# Altium footprint library CONN_HDMI.PcbLib: 10 footprints
Each footprint in its own frame and in the unit in brackets; x right, y up, seen from the top. Pads: shape width x height; smd on the part's side, far side on the other; paste and mask are expansions set on the pad; w line width, h text height; cw(c..) or ccw(c..) is an arc to the next point about the centre after c.
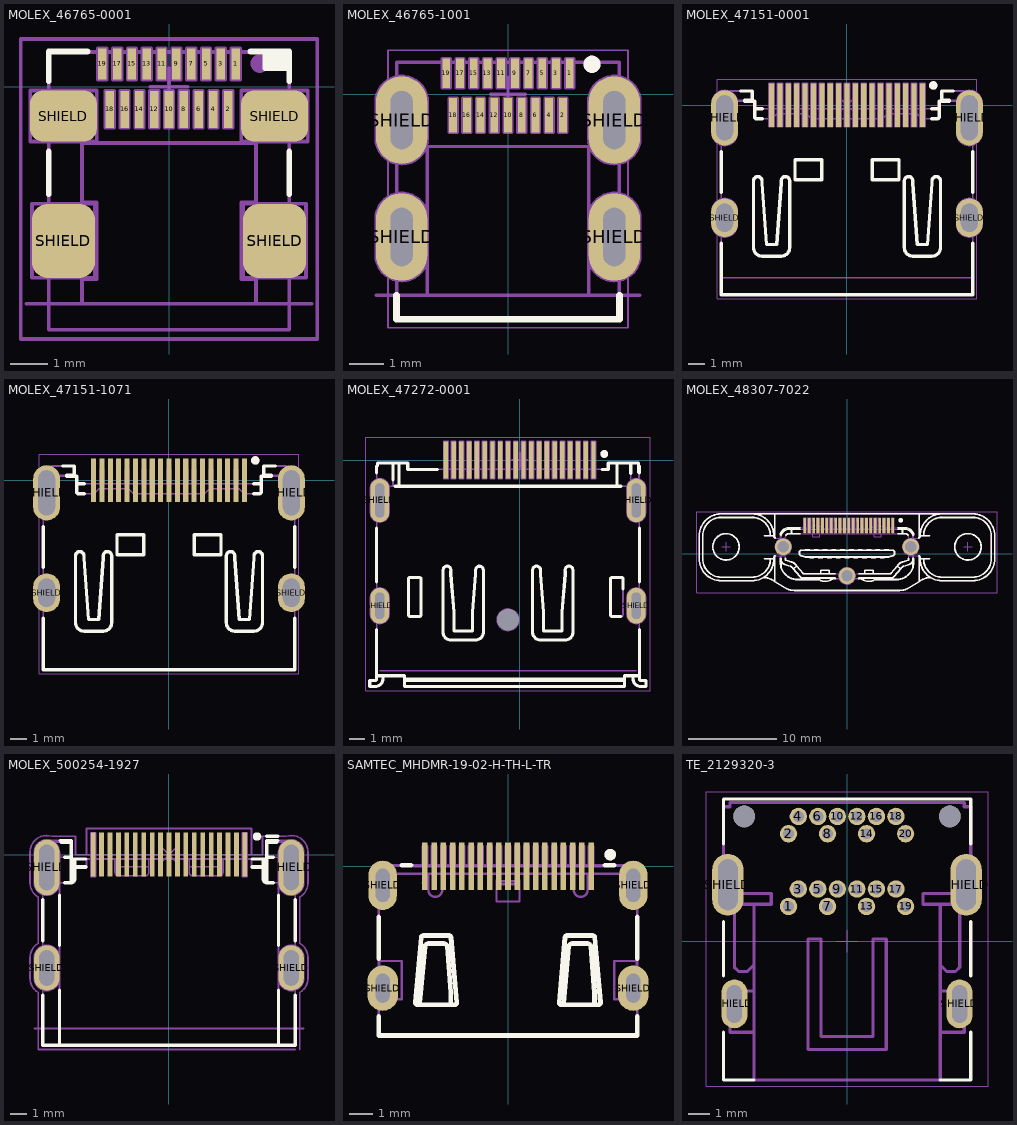
[diagram p0: the footprints below, top view; thin cyan lines are the x and y axes]

## MINIDP_CONNECTOR [mm] "Mini Displayport"
height 4.17
3D body "Mini Display Port.STEP": height 5.75, standoff -2.75, extent -5.3,-68.4 5.3,0.8

## MOLEX_46765-0001 [mm] "0.4mm Pitch, Surface Mount Right Angle 19 Contacts Micro HDMI Type-D Receptacle With Kapton Tape  And SMT Mounting Pads"
height 2.9
pads (23):
  rect 0.23x0.85 smd: 1(1.8,0.613) 3(1.4,0.613) 5(1,0.613) 7(0.6,0.613) 9(0.2,0.613) 11(-0.2,0.613) 13(-0.6,0.613) 15(-1,0.613) 17(-1.4,0.613) 19(-1.8,0.613)
  rect 0.23x1 smd: 2(1.6,-0.613) 4(1.2,-0.613) 6(0.8,-0.613) 8(0.4,-0.613) 10(0,-0.613) 12(-0.4,-0.613) 14(-0.8,-0.613) 16(-1.2,-0.613) 18(-1.6,-0.613)
  rrect50% 1.7x2 smd: SHIELD(-2.85,-4.163) SHIELD(2.85,-4.163)
  rrect50% 1.8x1.38 smd: SHIELD(-2.85,-0.793) SHIELD(2.85,-0.793)
Top Overlay:
  lines w0.15: -3.25,-2.9 -3.25,-1.75 ; -3.25,0.15 -3.25,0.95 -2.2,0.95 ; 2.2,0.95 3.25,0.95 3.25,0.15 ; 2.6,0.65 3.25,0.65 ; 2.6,0.8 3.25,0.8 ; 2.6,0.95 2.6,0.5 3.25,0.5 ; 3.25,-2.9 3.25,-1.75
Mechanical 14:
  drawing of 206 lines, arcs and shapes, not listed
  text ".Comment" at -1.6,-5.55 h0.7
  text ".Designator" at -1.8,-2.9 h1
Mechanical 15:
  lines w0.1: -4,-6.813 -4,1.288 4,1.288 4,-6.813 -4,-6.813
3D body "MOLEX_46765-0001.stp": height 2.97, standoff 0, extent -3.25,-6.562 3.25,0.938

## MOLEX_46765-1001 [mm] "0.4mm Pitch, Surface Mount Right Angle 19 Contacts Micro HDMI Type-D Receptacle With Kapton Tape  And Thru Hole Mounting Pads"
height 2.9
pads (23):
  rect 0.23x0.85 smd: 1(1.8,0.613) 3(1.4,0.613) 5(1,0.613) 7(0.6,0.613) 9(0.2,0.613) 11(-0.2,0.613) 13(-0.6,0.613) 15(-1,0.613) 17(-1.4,0.613) 19(-1.8,0.613)
  rect 0.23x1 smd: 2(1.6,-0.613) 4(1.2,-0.613) 6(0.8,-0.613) 8(0.4,-0.613) 10(0,-0.613) 12(-0.4,-0.613) 14(-0.8,-0.613) 16(-1.2,-0.613) 18(-1.6,-0.613)
  oval 1.5x2.55 hole 0.65 slot 1.7 at 90 deg: SHIELD(-3.1,-4.163) SHIELD(-3.1,-0.753) SHIELD(3.1,-4.163) SHIELD(3.1,-0.753)
Top Overlay:
  circle w0.25: c2.45,0.875 r0.125
  lines w0.2: -3.25,-5.863 -3.25,-6.563 3.25,-6.563 3.25,-5.863
Mechanical 8:
  drawing of 205 lines, arcs and shapes, not listed
Mechanical 14:
  circle w0.25: c2.45,0.875 r0.125
  lines w0.1: -3.25,-6.563 3.25,-6.563 3.25,0.938 -3.25,0.938 -3.25,-6.563
  text ".Designator" at -0.7,-3.7 h1
  text ".Comment" at -2.25,-6.05 h0.7
Mechanical 15:
  lines w0.05: -3.5,-6.813 3.5,-6.813 3.5,1.288 -3.5,1.288 -3.5,-6.813
3D body "MOLEX_46765-1001.stp": height 2.97, standoff -0.55, extent -3.25,-6.562 3.25,0.938

## MOLEX_47151-0001 [mm] "19 Pin, 0.50mm Pitch, 1.0 HDMI Right Angle Header"
height 6.18
pads (23):
  rect 0.3x2.6 smd: 1(4.5,0) 2(4,0) 3(3.5,0) 4(3,0) 5(2.5,0) 6(2,0) 7(1.5,0) 8(1,0) 9(0.5,0) 10(0,0) 11(-0.5,0) 12(-1,0) 13(-1.5,0) 14(-2,0) 15(-2.5,0) 16(-3,0) 17(-3.5,0) 18(-4,0) 19(-4.5,0)
  oval 1.6x2.3 hole 1 slot 1.7 at 90 deg: SHIELD(-7.3,-6.72) SHIELD(7.3,-6.72)
  oval 1.6x3.3 hole 1 slot 2.7 at 90 deg: SHIELD(-7.3,-0.76) SHIELD(7.3,-0.76)
Top Overlay:
  circle w0.25: c5.15,1.175 r0.125
  lines w0.2: -7.5,-8.243 -7.5,-11.31 7.5,-11.31 7.5,-8.243 ; -7.5,-5.198 -7.5,-2.782 ; -6.338,0.84 -5.65,0.84 -5.65,0.24 ; -6.11,0.29 -5.65,0.29 ; -6.104,0.24 -5.5,0.24 -5.5,-0.71 ccw(c-5.4,-0.71) -5.4,-0.81 -5.05,-0.81 ; -5.5,-0.221 -5.05,-0.221 ; 5.05,-0.81 5.4,-0.81 ccw(c5.4,-0.71) 5.5,-0.71 5.5,0.24 6.104,0.24 ; 5.05,-0.221 5.5,-0.221 ; 5.65,0.24 5.65,0.84 6.338,0.84 ; 5.65,0.29 6.11,0.29 ; 7.5,-5.198 7.5,-2.782 ; -5.575,-8.51 ccw(c-5.075,-8.51) -5.075,-9.01 -3.925,-9.01 ccw(c-3.925,-8.51) -3.425,-8.51 -3.425,-4.51 ccw(c-3.675,-4.51) -3.925,-4.51 -3.925,-4.56 -3.925,-4.66 -4.2,-8.32 -4.8,-8.32 -5.075,-4.66 -5.075,-4.51 ccw(c-5.325,-4.51) -5.575,-4.51 -5.575,-8.51 ; -3.1,-4.46 -1.5,-4.46 -1.5,-3.26 -3.1,-3.26 -3.1,-4.46 ; 1.5,-4.46 3.1,-4.46 3.1,-3.26 1.5,-3.26 1.5,-4.46 ; 3.425,-8.51 ccw(c3.925,-8.51) 3.925,-9.01 5.075,-9.01 ccw(c5.075,-8.51) 5.575,-8.51 5.575,-4.51 ccw(c5.325,-4.51) 5.075,-4.51 5.075,-4.56 5.075,-4.66 4.8,-8.32 4.2,-8.32 3.925,-4.66 3.925,-4.51 ccw(c3.675,-4.51) 3.425,-4.51 3.425,-8.51
Mechanical 8:
  drawing of 192 lines, arcs and shapes, not listed
Mechanical 14:
  circle w0.25: c5.15,1.175 r0.125
  lines w0.1: -7.5,0.29 -7.5,0.24 ; -7.45,0.29 -5.65,0.29 ; -7,0.24 -7,0.84 ; -6.95,0.84 -5.65,0.84 -5.65,0.24 ; -5.5,-0.221 5.5,-0.221 ; -4.6,-0.221 -4.6,0.641 -4.4,0.641 -4.4,-0.221 ; -4.1,-0.221 -4.1,0.641 -3.9,0.641 -3.9,-0.221 ; -3.6,-0.221 -3.6,0.641 -3.4,0.641 -3.4,-0.221 ; -3.1,-0.221 -3.1,0.641 -2.9,0.641 -2.9,-0.221 ; -2.6,-0.221 -2.6,0.641 -2.4,0.641 -2.4,-0.221 ; -2.1,-0.221 -2.1,0.641 -1.9,0.641 -1.9,-0.221 ; -1.6,-0.221 -1.6,0.641 -1.4,0.641 -1.4,-0.221 ; -1.1,-0.221 -1.1,0.641 -0.9,0.641 -0.9,-0.221 ; -0.6,-0.221 -0.6,0.641 -0.4,0.641 -0.4,-0.221 ; -0.1,-0.221 -0.1,0.641 0.1,0.641 0.1,-0.221 ; 0.4,-0.221 0.4,0.641 0.6,0.641 0.6,-0.221 ; 0.9,-0.221 0.9,0.641 1.1,0.641 1.1,-0.221 ; 1.4,-0.221 1.4,0.641 1.6,0.641 1.6,-0.221 ; 1.9,-0.221 1.9,0.641 2.1,0.641 2.1,-0.221 ; 2.4,-0.221 2.4,0.641 2.6,0.641 2.6,-0.221 ; 2.9,-0.221 2.9,0.641 3.1,0.641 3.1,-0.221 ; 3.4,-0.221 3.4,0.641 3.6,0.641 3.6,-0.221 ; 3.9,-0.221 3.9,0.641 4.1,0.641 4.1,-0.221 ; 4.4,-0.221 4.4,0.641 4.6,0.641 4.6,-0.221 ; 5.65,0.24 5.65,0.84 6.95,0.84 ; 5.65,0.29 7.45,0.29 ; 7,0.24 7,0.84 ; 7.5,0.29 7.5,0.24 ; -7.5,0.24 -7.5,-11.31 7.5,-11.31 7.5,0.24 ; -7.5,0.24 -5.5,0.24 -5.5,-0.71 ccw(c-5.4,-0.71) -5.4,-0.81 -4.48,-0.81 -4.18,-0.51 -2.42,-0.51 -2.12,-0.81 2.12,-0.81 2.42,-0.51 4.18,-0.51 4.48,-0.81 5.4,-0.81 ccw(c5.4,-0.71) 5.5,-0.71 5.5,0.24 7.5,0.24 ; -5.575,-8.51 ccw(c-5.075,-8.51) -5.075,-9.01 -3.925,-9.01 ccw(c-3.925,-8.51) -3.425,-8.51 -3.425,-4.51 ccw(c-3.675,-4.51) -3.925,-4.51 -3.925,-4.56 -3.925,-4.66 -4.2,-8.32 -4.8,-8.32 -5.075,-4.66 -5.075,-4.51 ccw(c-5.325,-4.51) -5.575,-4.51 -5.575,-8.51 ; -3.1,-4.46 -1.5,-4.46 -1.5,-3.26 -3.1,-3.26 -3.1,-4.46 ; 1.5,-4.46 3.1,-4.46 3.1,-3.26 1.5,-3.26 1.5,-4.46 ; 3.425,-8.51 ccw(c3.925,-8.51) 3.925,-9.01 5.075,-9.01 ccw(c5.075,-8.51) 5.575,-8.51 5.575,-4.51 ccw(c5.325,-4.51) 5.075,-4.51 5.075,-4.56 5.075,-4.66 4.8,-8.32 4.2,-8.32 3.925,-4.66 3.925,-4.51 ccw(c3.675,-4.51) 3.425,-4.51 3.425,-8.51
  text ".Designator" at -2.5,-6.95 h1.5
  text ".Comment" at -2.5,-10.15 h0.7
Mechanical 15:
  lines w0.05: -7.75,-11.56 -7.75,1.55 7.75,1.55 7.75,-11.56 -7.75,-11.56
3D body "MOLEX_47151-0001.stp": height 6.18, standoff -2.2, extent -7.5,-11.31 7.5,0.84

## MOLEX_47151-1071 [mm] "19 Pin, 0.50mm Pitch, 1.0 HDMI Right Angle Header"
height 6.18
pads (23):
  rect 0.3x2.6 smd: 1(4.5,0) 2(4,0) 3(3.5,0) 4(3,0) 5(2.5,0) 6(2,0) 7(1.5,0) 8(1,0) 9(0.5,0) 10(0,0) 11(-0.5,0) 12(-1,0) 13(-1.5,0) 14(-2,0) 15(-2.5,0) 16(-3,0) 17(-3.5,0) 18(-4,0) 19(-4.5,0)
  oval 1.6x2.3 hole 1 slot 1.7 at 90 deg: SHIELD(-7.3,-6.72) SHIELD(7.3,-6.72)
  oval 1.6x3.3 hole 1 slot 2.7 at 90 deg: SHIELD(-7.3,-0.76) SHIELD(7.3,-0.76)
Top Overlay:
  circle w0.25: c5.15,1.175 r0.125
  lines w0.2: -7.5,-8.243 -7.5,-11.31 7.5,-11.31 7.5,-8.243 ; -7.5,-5.198 -7.5,-2.782 ; -6.338,0.84 -5.65,0.84 -5.65,0.24 ; -6.11,0.29 -5.65,0.29 ; -6.104,0.24 -5.5,0.24 -5.5,-0.71 ccw(c-5.4,-0.71) -5.4,-0.81 -5.05,-0.81 ; -5.5,-0.221 -5.05,-0.221 ; 5.05,-0.81 5.4,-0.81 ccw(c5.4,-0.71) 5.5,-0.71 5.5,0.24 6.104,0.24 ; 5.05,-0.221 5.5,-0.221 ; 5.65,0.24 5.65,0.84 6.338,0.84 ; 5.65,0.29 6.11,0.29 ; 7.5,-5.198 7.5,-2.782 ; -5.575,-8.51 ccw(c-5.075,-8.51) -5.075,-9.01 -3.925,-9.01 ccw(c-3.925,-8.51) -3.425,-8.51 -3.425,-4.51 ccw(c-3.675,-4.51) -3.925,-4.51 -3.925,-4.56 -3.925,-4.66 -4.2,-8.32 -4.8,-8.32 -5.075,-4.66 -5.075,-4.51 ccw(c-5.325,-4.51) -5.575,-4.51 -5.575,-8.51 ; -3.1,-4.46 -3.1,-3.26 -1.5,-3.26 -1.5,-4.46 -3.1,-4.46 ; 1.5,-4.46 1.5,-3.26 3.1,-3.26 3.1,-4.46 1.5,-4.46 ; 3.425,-8.51 ccw(c3.925,-8.51) 3.925,-9.01 5.075,-9.01 ccw(c5.075,-8.51) 5.575,-8.51 5.575,-4.51 ccw(c5.325,-4.51) 5.075,-4.51 5.075,-4.56 5.075,-4.66 4.8,-8.32 4.2,-8.32 3.925,-4.66 3.925,-4.51 ccw(c3.675,-4.51) 3.425,-4.51 3.425,-8.51
Mechanical 14:
  circle w0.25: c5.15,1.175 r0.125
  lines w0.1: -7.5,0.29 -7.5,0.24 ; -7.45,0.29 -5.65,0.29 ; -7,0.24 -7,0.84 ; -6.95,0.84 -5.65,0.84 -5.65,0.24 ; -5.5,-0.221 5.5,-0.221 ; -4.6,-0.221 -4.6,0.641 -4.4,0.641 -4.4,-0.221 ; -4.1,-0.221 -4.1,0.641 -3.9,0.641 -3.9,-0.221 ; -3.6,-0.221 -3.6,0.641 -3.4,0.641 -3.4,-0.221 ; -3.1,-0.221 -3.1,0.641 -2.9,0.641 -2.9,-0.221 ; -2.6,-0.221 -2.6,0.641 -2.4,0.641 -2.4,-0.221 ; -2.1,-0.221 -2.1,0.641 -1.9,0.641 -1.9,-0.221 ; -1.6,-0.221 -1.6,0.641 -1.4,0.641 -1.4,-0.221 ; -1.1,-0.221 -1.1,0.641 -0.9,0.641 -0.9,-0.221 ; -0.6,-0.221 -0.6,0.641 -0.4,0.641 -0.4,-0.221 ; -0.1,-0.221 -0.1,0.641 0.1,0.641 0.1,-0.221 ; 0.4,-0.221 0.4,0.641 0.6,0.641 0.6,-0.221 ; 0.9,-0.221 0.9,0.641 1.1,0.641 1.1,-0.221 ; 1.4,-0.221 1.4,0.641 1.6,0.641 1.6,-0.221 ; 1.9,-0.221 1.9,0.641 2.1,0.641 2.1,-0.221 ; 2.4,-0.221 2.4,0.641 2.6,0.641 2.6,-0.221 ; 2.9,-0.221 2.9,0.641 3.1,0.641 3.1,-0.221 ; 3.4,-0.221 3.4,0.641 3.6,0.641 3.6,-0.221 ; 3.9,-0.221 3.9,0.641 4.1,0.641 4.1,-0.221 ; 4.4,-0.221 4.4,0.641 4.6,0.641 4.6,-0.221 ; 5.65,0.24 5.65,0.84 6.95,0.84 ; 5.65,0.29 7.45,0.29 ; 7,0.24 7,0.84 ; 7.5,0.29 7.5,0.24 ; -7.5,0.24 -5.5,0.24 -5.5,-0.71 ccw(c-5.4,-0.71) -5.4,-0.81 -4.48,-0.81 -4.18,-0.51 -2.42,-0.51 -2.12,-0.81 2.12,-0.81 2.42,-0.51 4.18,-0.51 4.48,-0.81 5.4,-0.81 ccw(c5.4,-0.71) 5.5,-0.71 5.5,0.24 7.5,0.24 ; -7.5,0.24 -7.5,-11.31 7.5,-11.31 7.5,0.24 ; -5.575,-8.51 ccw(c-5.075,-8.51) -5.075,-9.01 -3.925,-9.01 ccw(c-3.925,-8.51) -3.425,-8.51 -3.425,-4.51 ccw(c-3.675,-4.51) -3.925,-4.51 -3.925,-4.56 -3.925,-4.66 -4.2,-8.32 -4.8,-8.32 -5.075,-4.66 -5.075,-4.51 ccw(c-5.325,-4.51) -5.575,-4.51 -5.575,-8.51 ; -3.1,-4.46 -3.1,-3.26 -1.5,-3.26 -1.5,-4.46 -3.1,-4.46 ; 1.5,-4.46 1.5,-3.26 3.1,-3.26 3.1,-4.46 1.5,-4.46 ; 3.425,-8.51 ccw(c3.925,-8.51) 3.925,-9.01 5.075,-9.01 ccw(c5.075,-8.51) 5.575,-8.51 5.575,-4.51 ccw(c5.325,-4.51) 5.075,-4.51 5.075,-4.56 5.075,-4.66 4.8,-8.32 4.2,-8.32 3.925,-4.66 3.925,-4.51 ccw(c3.675,-4.51) 3.425,-4.51 3.425,-8.51
  text ".Designator" at -2.5,-6.95 h1.5
  text ".Comment" at -3,-9.9 h0.7
Mechanical 15:
  lines w0.05: -7.75,-11.56 7.75,-11.56 7.75,1.55 -7.75,1.55 -7.75,-11.56
3D body "471511071.stp": height 6.23, standoff -2.15, extent -7.5,-11.35 7.5,0.8

## MOLEX_47272-0001 [mm] "20 Circuits, 0.50mm Pitch, Right Angle DisplayPort* Male Receptacle"
height 5.63
pads (25):
  rect 0.28x2.4 smd: 1(4.75,0) 2(4.25,0) 3(3.75,0) 4(3.25,0) 5(2.75,0) 6(2.25,0) 7(1.75,0) 8(1.25,0) 9(0.75,0) 10(0.25,0) 11(-0.25,0) 12(-0.75,0) 13(-1.25,0) 14(-1.75,0) 15(-2.25,0) 16(-2.75,0) 17(-3.25,0) 18(-3.75,0) 19(-4.25,0) 20(-4.75,0)
  round 1 hole 1.4 unplated mask+0.2: MTG1(-0.75,-10.28)
  oval 1.2x2.3 hole 0.6 slot 1.7 at 90 deg: SHIELD(-9,-9.38) SHIELD(7.5,-9.38)
  oval 1.2x2.8 hole 0.6 slot 2.2 at 90 deg: SHIELD(-9,-2.6) SHIELD(7.5,-2.6)
Top Overlay:
  circle w0.25: c5.446,0.391 r0.125
  lines w0.2: -9.2,-13.88 -7.4,-13.88 -7.4,-14.58 6.75,-14.58 6.75,-13.88 7.7,-13.88 ; -9.2,-10.91 -9.2,-14.08 cw(c-9.3,-14.08) -9.3,-14.18 -9.645,-14.18 -9.645,-14.58 -9.3,-14.58 ccw(c-9.3,-14.08) -8.8,-14.08 -8.8,-13.88 ; -9.2,-7.85 -9.2,-4.38 ; -9.2,-0.82 -9.2,-0.39 -9.15,-0.39 -9.15,-0.19 -7.2,-0.19 -7.2,-0.601 -5.29,-0.601 ; -8.15,-1.273 -8.15,-0.19 ; -8.006,-1.69 6.506,-1.69 ; -7.75,-1.69 -7.75,-0.19 ; -7.4,-14.18 6.75,-14.18 ; -7.4,-14.08 6.75,-14.08 ; -6.35,-7.66 -6.35,-9.96 cw(c-6.45,-9.96) -6.45,-10.06 -7.05,-10.06 cw(c-7.05,-9.96) -7.15,-9.96 -7.15,-7.66 cw(c-7.05,-7.66) -7.05,-7.56 -6.45,-7.56 cw(c-6.45,-7.66) -6.35,-7.66 ; 5.29,-0.601 5.7,-0.601 5.7,-0.19 7.65,-0.19 7.65,-0.811 ; 5.85,-7.66 5.85,-9.96 ccw(c5.95,-9.96) 5.95,-10.06 6.508,-10.06 ; 5.85,-7.66 cw(c5.95,-7.66) 5.95,-7.56 6.55,-7.56 cw(c6.55,-7.66) 6.65,-7.66 6.65,-8.303 ; 6.25,-1.69 6.25,-0.19 ; 7.15,-0.863 7.15,-0.19 ; 7.3,-13.88 7.3,-14.08 ccw(c7.8,-14.08) 7.8,-14.58 8.14,-14.58 8.14,-14.18 7.8,-14.18 cw(c7.8,-14.08) 7.7,-14.08 7.7,-10.91 ; 7.65,-0.39 7.7,-0.39 7.7,-0.82 ; 7.7,-7.85 7.7,-4.38 ; -4.925,-11.08 ccw(c-4.425,-11.08) -4.425,-11.58 -2.835,-11.58 ccw(c-2.835,-11.08) -2.335,-11.08 -2.335,-7.08 ccw(c-2.585,-7.08) -2.835,-7.08 -2.835,-7.34 -3.035,-9.79 -3.035,-10.99 -4.235,-10.99 -4.235,-9.79 -4.435,-7.34 -4.435,-7.13 -4.425,-7.13 -4.425,-7.08 ccw(c-4.675,-7.08) -4.925,-7.08 -4.925,-11.08 ; 0.835,-11.08 ccw(c1.335,-11.08) 1.335,-11.58 2.925,-11.58 ccw(c2.925,-11.08) 3.425,-11.08 3.425,-7.08 ccw(c3.175,-7.08) 2.925,-7.08 2.925,-7.13 2.935,-7.13 2.935,-7.34 2.735,-9.79 2.735,-10.99 1.535,-10.99 1.535,-9.79 1.335,-7.34 1.335,-7.08 ccw(c1.085,-7.08) 0.835,-7.08 0.835,-11.08
Mechanical 8:
  drawing of 179 lines, arcs and shapes, not listed
Mechanical 14:
  circle w0.25: c5.446,0.391 r0.125
  lines w0.1: -9.2,-13.88 -7.4,-13.88 -7.4,-14.58 6.75,-14.58 6.75,-13.88 7.7,-13.88 ; -9.2,-1.69 7.7,-1.69 ; -8.8,-13.88 -8.8,-14.08 cw(c-9.3,-14.08) -9.3,-14.58 -9.645,-14.58 -9.645,-14.18 -9.3,-14.18 ccw(c-9.3,-14.08) -9.2,-14.08 -9.2,-0.39 -9.15,-0.39 -9.15,-0.19 -7.2,-0.19 -7.2,-0.601 5.7,-0.601 5.7,-0.19 7.65,-0.19 7.65,-1.69 ; -8.15,-1.69 -8.15,-0.19 ; -7.75,-1.69 -7.75,-0.19 ; -7.4,-14.18 6.75,-14.18 ; -7.4,-14.08 6.75,-14.08 ; -6.35,-7.66 -6.35,-9.96 cw(c-6.45,-9.96) -6.45,-10.06 -7.05,-10.06 cw(c-7.05,-9.96) -7.15,-9.96 -7.15,-7.66 cw(c-7.05,-7.66) -7.05,-7.56 -6.45,-7.56 cw(c-6.45,-7.66) -6.35,-7.66 ; 5.85,-7.66 5.85,-9.96 ccw(c5.95,-9.96) 5.95,-10.06 6.55,-10.06 ccw(c6.55,-9.96) 6.65,-9.96 6.65,-7.66 ccw(c6.55,-7.66) 6.55,-7.56 5.95,-7.56 ccw(c5.95,-7.66) 5.85,-7.66 ; 6.25,-1.69 6.25,-0.19 ; 7.15,-1.69 7.15,-0.19 ; 7.3,-13.88 7.3,-14.08 ccw(c7.8,-14.08) 7.8,-14.58 8.14,-14.58 8.14,-14.18 7.8,-14.18 cw(c7.8,-14.08) 7.7,-14.08 7.7,-0.39 7.65,-0.39 ; -4.925,-11.08 ccw(c-4.425,-11.08) -4.425,-11.58 -2.835,-11.58 ccw(c-2.835,-11.08) -2.335,-11.08 -2.335,-7.08 ccw(c-2.585,-7.08) -2.835,-7.08 -2.835,-7.34 -3.035,-9.79 -3.035,-10.99 -4.235,-10.99 -4.235,-9.79 -4.435,-7.34 -4.435,-7.13 -4.425,-7.13 -4.425,-7.08 ccw(c-4.675,-7.08) -4.925,-7.08 -4.925,-11.08 ; 0.835,-11.08 ccw(c1.335,-11.08) 1.335,-11.58 2.925,-11.58 ccw(c2.925,-11.08) 3.425,-11.08 3.425,-7.08 ccw(c3.175,-7.08) 2.925,-7.08 2.925,-7.13 2.935,-7.13 2.935,-7.34 2.735,-9.79 2.735,-10.99 1.535,-10.99 1.535,-9.79 1.335,-7.34 1.335,-7.08 ccw(c1.085,-7.08) 0.835,-7.08 0.835,-11.08
  text ".Comment" at -2.95,-13.1 h0.7
  text ".Designator" at -2.5,-6.95 h1.5
Mechanical 15:
  lines w0.05: -9.895,-14.83 8.39,-14.83 8.39,1.45 -9.895,1.45 -9.895,-14.83
3D body "MOLEX_47272-0001.stp": height 6.65, standoff -2.1, extent -9.645,-14.58 8.14,0.31

## MOLEX_48307-7022 [mm] "19 Contacts, Pitch 0.5mm, Vertical, HDMI Receptacle"
height 10.7
pads (24):
  rect 0.3x1.7 smd: 1(4.201,3.215) 2(3.701,3.215) 3(3.201,3.215) 4(2.701,3.215) 5(2.201,3.215) 6(1.701,3.215) 7(1.201,3.215) 8(0.701,3.215) 9(0.201,3.215) 10(-0.299,3.215) 11(-0.799,3.215) 12(-1.299,3.215) 13(-1.799,3.215) 14(-2.299,3.215) 15(-2.799,3.215) 16(-3.299,3.215) 17(-3.799,3.215) 18(-4.299,3.215) 19(-4.799,3.215) NC1(5.201,3.215) NC2(4.701,3.215)
  round 1.9 hole 1.3: SHIELD(-7.259,0.765) SHIELD(-0.009,-2.535) SHIELD(7.241,0.765)
Top Overlay:
  drawing of 208 lines, arcs and shapes, not listed
Mechanical 8:
  circle w0.1: c-0.009,-2.535 r0.95
  circle w0.1: c-7.259,0.765 r0.95
  circle w0.1: c7.241,0.765 r0.95
  lines w0.1: -14.259,0.765 -13.759,0.765 ; -13.759,0.265 -13.759,0.765 ; -13.759,1.265 -13.759,0.765 ; -13.259,0.765 -13.759,0.765 ; -7.759,0.765 -7.259,0.765 ; -7.259,0.265 -7.259,0.765 ; -7.259,1.265 -7.259,0.765 ; -6.759,0.765 -7.259,0.765 ; -0.659,-2.535 0.641,-2.535 ; -0.509,-2.535 -0.009,-2.535 ; -0.009,-3.035 -0.009,-2.535 ; -0.009,-2.035 -0.009,-2.535 ; 0.491,-2.535 -0.009,-2.535 ; 6.741,0.765 7.241,0.765 ; 7.241,0.265 7.241,0.765 ; 7.241,1.265 7.241,0.765 ; 7.741,0.765 7.241,0.765 ; 13.241,0.765 13.741,0.765 ; 13.741,0.265 13.741,0.765 ; 13.741,1.265 13.741,0.765 ; 14.241,0.765 13.741,0.765 ; -4.949,4.065 -4.799,3.215 -4.649,4.065 ; -4.949,4.065 -4.649,4.065 ; -4.949,4.065 -4.949,2.365 -4.649,2.365 -4.649,4.065 ; -4.449,4.065 -4.299,3.215 -4.149,4.065 ; -4.449,4.065 -4.149,4.065 ; -4.449,4.065 -4.449,2.365 -4.149,2.365 -4.149,4.065 ; -3.949,4.065 -3.799,3.215 -3.649,4.065 ; -3.949,4.065 -3.649,4.065 ; -3.949,4.065 -3.949,2.365 -3.649,2.365 -3.649,4.065 ; -3.449,4.065 -3.299,3.215 -3.149,4.065 ; -3.449,4.065 -3.149,4.065 ; -3.449,4.065 -3.449,2.365 -3.149,2.365 -3.149,4.065 ; -2.949,4.065 -2.799,3.215 -2.649,4.065 ; -2.949,4.065 -2.649,4.065 ; -2.949,4.065 -2.949,2.365 -2.649,2.365 -2.649,4.065 ; -2.449,4.065 -2.299,3.215 -2.149,4.065 ; -2.449,4.065 -2.149,4.065 ; -2.449,4.065 -2.449,2.365 -2.149,2.365 -2.149,4.065 ; -1.949,4.065 -1.799,3.215 -1.649,4.065 ; -1.949,4.065 -1.649,4.065 ; -1.949,4.065 -1.949,2.365 -1.649,2.365 -1.649,4.065 ; -1.449,4.065 -1.299,3.215 -1.149,4.065 ; -1.449,4.065 -1.149,4.065 ; -1.449,4.065 -1.449,2.365 -1.149,2.365 -1.149,4.065 ; -0.949,4.065 -0.799,3.215 -0.649,4.065 ; -0.949,4.065 -0.649,4.065 ; -0.949,4.065 -0.949,2.365 -0.649,2.365 -0.649,4.065 ; -0.449,4.065 -0.299,3.215 -0.149,4.065 ; -0.449,4.065 -0.149,4.065 ; -0.449,4.065 -0.449,2.365 -0.149,2.365 -0.149,4.065 ; 0.051,4.065 0.201,3.215 0.351,4.065 ; 0.051,4.065 0.351,4.065 ; 0.051,4.065 0.051,2.365 0.351,2.365 0.351,4.065 ; 0.551,4.065 0.701,3.215 0.851,4.065 ; 0.551,4.065 0.851,4.065 ; 0.551,4.065 0.551,2.365 0.851,2.365 0.851,4.065 ; 1.051,4.065 1.201,3.215 1.351,4.065 ; 1.051,4.065 1.351,4.065 ; 1.051,4.065 1.051,2.365 1.351,2.365 1.351,4.065 ; 1.551,4.065 1.701,3.215 1.851,4.065 ; 1.551,4.065 1.851,4.065 ; 1.551,4.065 1.551,2.365 1.851,2.365 1.851,4.065 ; 2.051,4.065 2.201,3.215 2.351,4.065 ; 2.051,4.065 2.351,4.065 ; 2.051,4.065 2.051,2.365 2.351,2.365 2.351,4.065 ; 2.551,4.065 2.701,3.215 2.851,4.065 ; 2.551,4.065 2.851,4.065 ; 2.551,4.065 2.551,2.365 2.851,2.365 2.851,4.065 ; 3.051,4.065 3.201,3.215 3.351,4.065 ; 3.051,4.065 3.351,4.065 ; 3.051,4.065 3.051,2.365 3.351,2.365 3.351,4.065 ; 3.551,4.065 3.701,3.215 3.851,4.065 ; 3.551,4.065 3.851,4.065 ; 3.551,4.065 3.551,2.365 3.851,2.365 3.851,4.065 ; 4.051,4.065 4.201,3.215 4.351,4.065 ; 4.051,4.065 4.351,4.065 ; 4.051,4.065 4.051,2.365 4.351,2.365 4.351,4.065 ; 4.551,4.065 4.701,3.215 4.851,4.065 ; 4.551,4.065 4.851,4.065 ; 4.551,4.065 4.551,2.365 4.851,2.365 4.851,4.065 ; 5.051,4.065 5.201,3.215 5.351,4.065 ; 5.051,4.065 5.351,4.065 ; 5.051,4.065 5.051,2.365 5.351,2.365 5.351,4.065
Mechanical 14:
  drawing of 236 lines, arcs and shapes, not listed
  text ".Comment" at -2.4,1.1 h0.7
  text ".Designator" at -2.35,-0.9 h1.5
Mechanical 15:
  lines w0.05: -17.059,-4.435 -17.059,4.765 17.041,4.765 17.041,-4.435 -17.059,-4.435
3D body "MOLEX_48307-7022.stp": height 10.55, standoff -2.45, extent -16.8,-4.175 16.8,4.525

## MOLEX_500254-1927 [mm] "19 Contacts, Pitch 0.5mm, Right Angle, HDMI Receptacle"
height 6.18
pads (23):
  rect 0.28x2.6 smd: 1(4.5,0) 2(4,0) 3(3.5,0) 4(3,0) 5(2.5,0) 6(2,0) 7(1.5,0) 8(1,0) 9(0.5,0) 10(0,0) 11(-0.5,0) 12(-1,0) 13(-1.5,0) 14(-2,0) 15(-2.5,0) 16(-3,0) 17(-3.5,0) 18(-4,0) 19(-4.5,0)
  oval 1.5x2.7 hole 0.9 slot 2.1 at 90 deg: SHIELD(-7.25,-6.72) SHIELD(7.25,-6.72)
  oval 1.5x3.3 hole 0.9 slot 2.7 at 90 deg: SHIELD(-7.25,-0.76) SHIELD(7.25,-0.76)
Top Overlay:
  circle w0.25: c5.225,1.075 r0.125
  lines w0.2: -7.5,-8.34 -7.5,-11.31 7.5,-11.31 7.5,-8.34 ; -7.5,-5.1 -7.5,-2.68 ; -6.5,-11.31 -6.5,-8.055 ; -6.5,-5.385 -6.5,-2.395 ; -6.467,0.84 -5.8,0.84 -5.8,-1.66 ; -6.388,0.74 -5.8,0.74 ; -6.2,-1.66 -5.8,-1.66 ; -6.2,-0.16 -5.8,-0.16 ; -5.8,-0.26 -4.94,-0.26 ; -5.6,-0.26 -5.6,-0.71 -4.94,-0.71 ; -4.94,-0.76 -5.6,-0.76 -5.6,-1.46 cw(c-5.8,-1.46) -5.8,-1.66 ; 4.94,-0.76 5.6,-0.76 5.6,-1.46 ccw(c5.8,-1.46) 5.8,-1.66 ; 4.94,-0.71 5.6,-0.71 5.6,-0.26 ; 4.94,-0.26 5.8,-0.26 ; 5.8,-0.16 6.2,-0.16 ; 5.8,0.74 6.388,0.74 ; 5.8,1.09 6.467,1.09 ; 6.2,-1.66 5.8,-1.66 ; 6.467,0.84 5.8,0.84 5.8,-1.66 ; 6.5,-11.31 6.5,-8.055 ; 6.5,-5.385 6.5,-2.395 ; 7.5,-5.1 7.5,-2.68
Mechanical 8:
  lines w0.1: -8,-10.31 0,-10.31 8,-10.31 ; -7.75,-7.32 -7.25,-7.32 ; -7.75,-6.72 -7.25,-6.72 ; -7.75,-6.12 -7.25,-6.12 ; -7.75,-1.66 -7.25,-1.66 ; -7.75,-0.76 -7.25,-0.76 ; -7.75,0.14 -7.25,0.14 ; -7.25,-7.82 -7.25,-7.32 ; -7.25,-7.22 -7.25,-6.72 ; -7.25,-6.22 -7.25,-6.72 ; -7.25,-5.62 -7.25,-6.12 ; -7.25,-2.16 -7.25,-1.66 ; -7.25,-1.26 -7.25,-0.76 ; -7.25,-0.26 -7.25,-0.76 ; -7.25,0.64 -7.25,0.14 ; -6.75,-7.32 -7.25,-7.32 ; -6.75,-6.72 -7.25,-6.72 ; -6.75,-6.12 -7.25,-6.12 ; -6.75,-1.66 -7.25,-1.66 ; -6.75,-0.76 -7.25,-0.76 ; -6.75,0.14 -7.25,0.14 ; -5,0 -4.5,0 ; -4.5,-0.5 -4.5,0 ; -4.5,0.5 -4.5,0 ; -4,-0.5 -4,0 -4,0.5 ; -3.5,-0.5 -3.5,0 -3.5,0.5 ; -3,-0.5 -3,0 -3,0.5 ; -2.5,-0.5 -2.5,0 -2.5,0.5 ; -2,-0.5 -2,0 -2,0.5 ; -1.5,-0.5 -1.5,0 -1.5,0.5 ; -1,-0.5 -1,0 -1,0.5 ; -0.5,-0.5 -0.5,0 -0.5,0.5 ; -0.354,-0.354 0,0 ; -0.354,0.354 0,0 ; 0,-0.5 0,0 ; 0,0.5 0,0 ; 0.354,-0.354 0,0 ; 0.354,0.354 0,0 ; 0.5,-0.5 0.5,0 0.5,0.5 ; 1,-0.5 1,0 1,0.5 ; 1.5,-0.5 1.5,0 1.5,0.5 ; 2,-0.5 2,0 2,0.5 ; 2.5,-0.5 2.5,0 2.5,0.5 ; 3,-0.5 3,0 3,0.5 ; 3.5,-0.5 3.5,0 3.5,0.5 ; 4,-0.5 4,0 4,0.5 ; 4.5,-0.5 4.5,0 ; 4.5,0.5 4.5,0 ; 5,0 4.5,0 ; 6.75,-7.32 7.25,-7.32 ; 6.75,-6.72 7.25,-6.72 ; 6.75,-6.12 7.25,-6.12 ; 6.75,-1.66 7.25,-1.66 ; 6.75,-0.76 7.25,-0.76 ; 6.75,0.14 7.25,0.14 ; 7.25,-7.82 7.25,-7.32 ; 7.25,-7.22 7.25,-6.72 ; 7.25,-6.22 7.25,-6.72 ; 7.25,-5.62 7.25,-6.12 ; 7.25,-2.16 7.25,-1.66 ; 7.25,-1.26 7.25,-0.76 ; 7.25,-0.26 7.25,-0.76 ; 7.25,0.64 7.25,0.14 ; 7.75,-7.32 7.25,-7.32 ; 7.75,-6.72 7.25,-6.72 ; 7.75,-6.12 7.25,-6.12 ; 7.75,-1.66 7.25,-1.66 ; 7.75,-0.76 7.25,-0.76 ; 7.75,0.14 7.25,0.14 ; -4.5,0 4.5,0 ; 4.64,-1.3 4.64,1.3 ; 4.64,-1.3 4.36,-1.3 4.36,1.3 4.64,1.3 ; 4.64,-1.3 4.64,1.3 ; 4.64,-1.3 4.64,1.3 ; 4.64,-1.3 4.64,1.3 ; 4.64,-1.3 4.64,1.3 ; 4.64,-1.3 4.64,1.3 ; 4.64,-1.3 4.64,1.3 ; 4.64,-1.3 4.64,1.3 ; 4.64,-1.3 4.64,1.3 ; 4.64,-1.3 4.64,1.3 ; 4.64,-1.3 4.64,1.3 ; -8,-7.32 ccw(c-7.25,-7.32) -6.5,-7.32 -6.5,-6.12 ccw(c-7.25,-6.12) -8,-6.12 -8,-7.32 ; -8,-1.66 ccw(c-7.25,-1.66) -6.5,-1.66 -6.5,0.14 ccw(c-7.25,0.14) -8,0.14 -8,-1.66 ; -7.7,-7.32 ccw(c-7.25,-7.32) -6.8,-7.32 -6.8,-6.12 ccw(c-7.25,-6.12) -7.7,-6.12 -7.7,-7.32 ; -7.7,-1.66 ccw(c-7.25,-1.66) -6.8,-1.66 -6.8,0.14 ccw(c-7.25,0.14) -7.7,0.14 -7.7,-1.66 ; -4.64,-1.3 -4.36,-1.3 -4.36,1.3 -4.64,1.3 -4.64,-1.3 ; 6.5,-7.32 ccw(c7.25,-7.32) 8,-7.32 8,-6.12 ccw(c7.25,-6.12) 6.5,-6.12 6.5,-7.32 ; 6.5,-1.66 ccw(c7.25,-1.66) 8,-1.66 8,0.14 ccw(c7.25,0.14) 6.5,0.14 6.5,-1.66 ; 6.8,-7.32 ccw(c7.25,-7.32) 7.7,-7.32 7.7,-6.12 ccw(c7.25,-6.12) 6.8,-6.12 6.8,-7.32 ; 6.8,-1.66 ccw(c7.25,-1.66) 7.7,-1.66 7.7,0.14 ccw(c7.25,0.14) 6.8,0.14 6.8,-1.66
Mechanical 14:
  lines w0.1: -7.5,-1.66 -5.8,-1.66 ; -7.5,-1.06 -7,-1.06 ; -7.5,-0.66 cw(c-7.15,-0.66) -7.15,-0.31 -7,-0.31 ; -7,-1.66 -7,0.24 -7.5,0.24 -7.5,-11.31 7.5,-11.31 7.5,0.24 7,0.24 7,-1.66 ; -7,-0.16 -5.8,-0.16 ; -6.95,-0.16 -6.95,0.84 ; -6.85,-0.16 -6.85,0.74 ; -6.5,-11.31 -6.5,-1.66 ; -5.8,-0.26 5.8,-0.26 ; -5.8,0.74 -6.85,0.74 ; -5.6,-0.26 -5.6,-0.71 -4.9,-0.71 ; -4.9,-0.26 -4.9,-0.76 -5.6,-0.76 -5.6,-1.46 cw(c-5.8,-1.46) -5.8,-1.66 ; -3.2,-0.71 -1.2,-0.71 ; -3.2,-0.26 -3.2,-1.06 ccw(c-3,-1.06) -3,-1.26 -1.4,-1.26 ccw(c-1.4,-1.06) -1.2,-1.06 -1.2,-0.26 ; 1.2,-0.71 3.2,-0.71 ; 1.2,-0.26 1.2,-1.06 ccw(c1.4,-1.06) 1.4,-1.26 3,-1.26 ccw(c3,-1.06) 3.2,-1.06 3.2,-0.26 ; 4.9,-0.71 5.6,-0.71 5.6,-0.26 ; 4.9,-0.26 4.9,-0.76 5.6,-0.76 5.6,-1.46 ccw(c5.8,-1.46) 5.8,-1.66 ; 5.8,-0.16 7,-0.16 ; 5.8,0.74 6.85,0.74 ; 6.5,-11.31 6.5,-1.66 ; 6.85,-0.16 6.85,0.74 ; 6.95,-0.16 6.95,0.84 ; 7,-1.06 7.5,-1.06 ; 7,-0.31 7.15,-0.31 cw(c7.15,-0.66) 7.5,-0.66 ; 7.5,-1.66 5.8,-1.66 ; -6.95,0.84 -5.8,0.84 -5.8,-1.66 ; -6.95,0.84 -6.85,0.74 ; 5.8,-1.66 5.8,0.84 6.95,0.84 ; 6.85,0.74 6.95,0.84
  text ".Comment" at -2.3,-9.6 h0.7
  text ".Designator" at -2.5,-6.95 h1.5
Mechanical 15:
  lines w0.1: 7.5,-11.56 -7.75,-11.56 -7.75,-8.186 cw(c-7.25,-7.32) -8.25,-7.32 -8.25,-6.12 cw(c-7.25,-6.12) -7.75,-5.254 -7.75,-2.526 cw(c-7.25,-1.66) -8.25,-1.66 -8.25,0.14 cw(c-7.25,0.14) -6.938,1.09 -5.55,1.09 -5.55,-0.01 -4.89,-0.01 -4.89,1.55 4.89,1.55 4.89,-0.01 5.55,-0.01 5.55,1.09 6.938,1.09 cw(c7.25,0.14) 8.25,0.14 8.25,-1.66 cw(c7.25,-1.66) 7.75,-2.526 7.75,-5.254 cw(c7.25,-6.12) 8.25,-6.12 8.25,-7.32 cw(c7.25,-7.32) 7.75,-8.186 7.75,-11.56
3D body "MOLEX_500254-1927.stp": height 6.18, standoff -2.2, extent -7.5,-11.31 7.5,0.84

## SAMTEC_MHDMR-19-02-H-TH-L-TR [mm] "19 Contacts, Pitch 0.4mm, Right Angle, Mini  HDMI High Speed I/O Receptacle"
height 3.2
pads (23):
  rect 0.24x2.05 smd: 1(3.6,0) 2(3.2,0) 3(2.8,0) 4(2.4,0) 5(2,0) 6(1.6,0) 7(1.2,0) 8(0.8,0) 9(0.4,0) 10(0,0) 11(-0.4,0) 12(-0.8,0) 13(-1.2,0) 14(-1.6,0) 15(-2,0) 16(-2.4,0) 17(-2.8,0) 18(-3.2,0) 19(-3.6,0)
  oval 1.32x1.96 hole 0.62 slot 1.26 at 90 deg: SHIELD(-5.425,-5.281) SHIELD(5.423,-5.281)
  oval 1.22x2.14 hole 0.62 slot 1.44 at 90 deg: SHIELD(-5.425,-0.83) SHIELD(5.423,-0.83)
Top Overlay:
  circle w0.25: c4.425,0.5 r0.125
  lines w0.2: -5.6,-6.5 -5.6,-7.33 5.599,-7.33 5.599,-6.5 ; -5.6,-4 -5.6,-2.2 ; -4.6,0.036 -4.199,0.036 ; -3.904,-5.999 ccw(c-3.905,-5.904) -3.82,-5.947 -3.82,-5.937 -3.594,-3.459 cw(c-3.485,-3.474) -3.58,-3.42 cw(c-3.417,-3.562) -3.416,-3.345 -2.814,-3.345 cw(c-2.813,-3.562) -2.65,-3.42 cw(c-2.745,-3.474) -2.636,-3.459 ; -2.636,-3.46 -2.481,-5.473 -2.481,-5.905 ccw(c-2.387,-5.905) -2.4,-5.998 ; 2.322,-5.999 ccw(c2.322,-5.904) 2.407,-5.947 2.407,-5.937 2.633,-3.459 cw(c2.742,-3.474) 2.646,-3.42 cw(c2.81,-3.562) 2.811,-3.345 3.412,-3.345 cw(c3.413,-3.562) 3.577,-3.42 cw(c3.482,-3.474) 3.59,-3.459 ; 3.59,-3.46 3.746,-5.473 3.746,-5.905 ccw(c3.84,-5.905) 3.827,-5.998 ; 4.201,0.036 4.6,0.036 ; 5.599,-4 5.599,-2.2 ; -4.006,-5.897 ccw(c-3.912,-5.905) -3.912,-5.999 -2.316,-5.999 ccw(c-2.316,-5.905) -2.222,-5.897 -2.468,-3.093 ccw(c-2.57,-3.102) -2.57,-2.999 -3.658,-2.999 ccw(c-3.658,-3.102) -3.761,-3.093 -4.006,-5.897 ; 2.221,-5.897 ccw(c2.314,-5.905) 2.314,-5.999 3.911,-5.999 ccw(c3.911,-5.905) 4.004,-5.897 3.759,-3.093 ccw(c3.657,-3.102) 3.657,-2.999 2.568,-2.999 ccw(c2.568,-3.102) 2.466,-3.093 2.221,-5.897
Mechanical 7:
  lines w0.1: -3.699,-0.719 -3.699,-0.71
Mechanical 8:
  lines w0.1: -5.925,-5.68 -5.425,-5.68 -4.925,-5.68 ; -5.925,-5.281 -5.425,-5.281 -4.925,-5.281 ; -5.925,-4.88 -5.425,-4.88 -4.925,-4.88 ; -5.925,-1.28 -5.425,-1.28 -4.925,-1.28 ; -5.925,-0.83 -5.425,-0.83 -4.925,-0.83 ; -5.925,-0.38 -5.425,-0.38 -4.925,-0.38 ; -5.425,-6.18 -5.425,-4.38 ; -5.425,-1.78 -5.425,0.12 ; -4.1,0 -3.6,0 ; -3.6,-0.5 -3.6,0 ; -3.6,0.5 -3.6,0 ; -3.2,-0.5 -3.2,0 ; -3.2,0.5 -3.2,0 ; -2.8,-0.5 -2.8,0 ; -2.8,0.5 -2.8,0 ; -2.4,-0.5 -2.4,0 ; -2.4,0.5 -2.4,0 ; -2,-0.5 -2,0 ; -2,0.5 -2,0 ; -1.6,-0.5 -1.6,0 ; -1.6,0.5 -1.6,0 ; -1.2,-0.5 -1.2,0 ; -1.2,0.5 -1.2,0 ; -0.8,-0.5 -0.8,0 ; -0.8,0.5 -0.8,0 ; -0.4,-0.5 -0.4,0 ; -0.4,0.5 -0.4,0 ; 0,-0.5 0,0 ; 0,0.5 0,0 ; 0.4,-0.5 0.4,0 ; 0.4,0.5 0.4,0 ; 0.8,-0.5 0.8,0 ; 0.8,0.5 0.8,0 ; 1.2,-0.5 1.2,0 ; 1.2,0.5 1.2,0 ; 1.6,-0.5 1.6,0 ; 1.6,0.5 1.6,0 ; 2,-0.5 2,0 ; 2,0.5 2,0 ; 2.4,-0.5 2.4,0 ; 2.4,0.5 2.4,0 ; 2.8,-0.5 2.8,0 ; 2.8,0.5 2.8,0 ; 3.2,-0.5 3.2,0 ; 3.2,0.5 3.2,0 ; 3.6,-0.5 3.6,0 ; 3.6,0.5 3.6,0 ; 4.1,0 3.6,0 ; 4.923,-5.281 5.423,-5.281 5.923,-5.281 ; 4.923,-0.83 5.423,-0.83 5.923,-0.83 ; 4.925,-5.68 5.425,-5.68 5.925,-5.68 ; 4.925,-4.88 5.425,-4.88 5.925,-4.88 ; 4.925,-1.28 5.425,-1.28 5.925,-1.28 ; 4.925,-0.38 5.425,-0.38 5.925,-0.38 ; 5.425,-6.18 5.425,-4.38 ; 5.425,-1.78 5.425,0.12 ; -3.6,0 -3.2,0 ; -3.2,0 -2.8,0 ; -2.8,0 -2.4,0 ; -2.4,0 -2,0 ; -2,0 -1.6,0 ; -1.6,0 -1.2,0 ; -1.2,0 -0.8,0 ; -0.8,0 -0.4,0 ; -0.4,0 0,0 ; 0,0 0.4,0 ; 0.4,0 0.8,0 ; 0.8,0 1.2,0 ; 1.2,0 1.6,0 ; 1.6,0 2,0 ; 2,0 2.4,0 ; 2.4,0 2.8,0 ; 2.8,0 3.2,0 ; 3.2,0 3.6,0
Mechanical 14:
  circle w0.1: c4.425,0.5 r0.2
  lines w0.1: -5.345,-0.33 -5.345,0.036 5.343,0.036 5.343,-0.33 ; -3.904,-5.999 ccw(c-3.905,-5.904) -3.82,-5.947 -3.82,-5.937 -3.594,-3.459 cw(c-3.485,-3.474) -3.58,-3.42 cw(c-3.417,-3.562) -3.416,-3.345 -2.814,-3.345 cw(c-2.813,-3.562) -2.65,-3.42 cw(c-2.745,-3.474) -2.636,-3.459 ; -3.699,0.036 -3.699,0.871 -3.499,0.871 -3.499,0.036 ; -3.449,-0.33 -3.449,-1.031 ccw(c-3.149,-1.031) -2.849,-1.031 -2.849,-0.33 ; -3.299,0.036 -3.299,0.871 -3.099,0.871 -3.099,0.036 ; -2.899,0.036 -2.899,0.871 -2.699,0.871 -2.699,0.036 ; -2.636,-3.46 -2.481,-5.473 -2.481,-5.905 ccw(c-2.387,-5.905) -2.4,-5.998 ; -2.499,0.036 -2.499,0.871 -2.299,0.871 -2.299,0.036 ; -2.099,0.036 -2.099,0.871 -1.899,0.871 -1.899,0.036 ; -1.699,0.036 -1.699,0.871 -1.499,0.871 -1.499,0.036 ; -1.299,0.036 -1.299,0.871 -1.099,0.871 -1.099,0.036 ; -0.899,0.036 -0.899,0.871 -0.699,0.871 -0.699,0.036 ; -0.501,-0.783 0.499,-0.783 ; -0.501,-0.651 0.499,-0.651 ; -0.499,-0.614 -0.499,-1.531 0.499,-1.531 0.501,-0.614 ; -0.499,0.036 -0.499,0.871 -0.299,0.871 -0.299,0.036 ; -0.099,0.036 -0.099,0.871 0.101,0.871 0.101,0.036 ; 0.301,0.036 0.301,0.871 0.501,0.871 0.501,0.036 ; 0.701,0.036 0.701,0.871 0.901,0.871 0.901,0.036 ; 1.101,0.036 1.101,0.871 1.301,0.871 1.301,0.036 ; 1.501,0.036 1.501,0.871 1.701,0.871 1.701,0.036 ; 1.901,0.036 1.901,0.871 2.101,0.871 2.101,0.036 ; 2.301,0.036 2.301,0.871 2.501,0.871 2.501,0.036 ; 2.322,-5.999 ccw(c2.322,-5.904) 2.407,-5.947 2.407,-5.937 2.633,-3.459 cw(c2.742,-3.474) 2.646,-3.42 cw(c2.81,-3.562) 2.811,-3.345 3.412,-3.345 cw(c3.413,-3.562) 3.577,-3.42 cw(c3.482,-3.474) 3.59,-3.459 ; 2.701,0.036 2.701,0.871 2.901,0.871 2.901,0.036 ; 2.848,-0.33 2.848,-1.031 ccw(c3.148,-1.031) 3.447,-1.031 3.447,-0.33 ; 3.101,0.036 3.101,0.871 3.301,0.871 3.301,0.036 ; 3.501,0.036 3.501,0.871 3.701,0.871 3.701,0.036 ; 3.59,-3.46 3.746,-5.473 3.746,-5.905 ccw(c3.84,-5.905) 3.827,-5.998 ; -5.6,-7.33 5.599,-7.33 5.599,-0.33 -5.6,-0.33 -5.6,-7.33 ; -5.576,-5.755 -4.598,-5.755 -4.598,-4.104 -5.576,-4.104 -5.576,-5.755 ; -4.006,-5.897 ccw(c-3.912,-5.905) -3.912,-5.999 -2.316,-5.999 ccw(c-2.316,-5.905) -2.222,-5.897 -2.468,-3.093 ccw(c-2.57,-3.102) -2.57,-2.999 -3.658,-2.999 ccw(c-3.658,-3.102) -3.761,-3.093 -4.006,-5.897 ; 2.221,-5.897 ccw(c2.314,-5.905) 2.314,-5.999 3.911,-5.999 ccw(c3.911,-5.905) 4.004,-5.897 3.759,-3.093 ccw(c3.657,-3.102) 3.657,-2.999 2.568,-2.999 ccw(c2.568,-3.102) 2.466,-3.093 2.221,-5.897 ; 4.597,-5.755 5.575,-5.755 5.575,-4.104 4.597,-4.104 4.597,-5.755
  text ".Designator" at -1.8,-3.7 h1.5
  text ".Comment" at -1.75,-6.8 h0.7
3D body "SAMTEC_MHDMR-19-02-H-TH-L-TR.stp": height 3.28, standoff -0.92, extent -5.74,-7.33 5.738,0.871

## TE_2129320-3 [mm] "Mini Displayport"
height 4.17
pads (26):
  round 0.8 hole 0.5: 1(-2.7,1.605) 2(-2.7,4.955) 3(-2.25,2.405) 4(-2.25,5.755) 5(-1.35,2.405) 6(-1.35,5.755) 7(-0.9,1.605) 8(-0.9,4.955) 9(-0.45,2.405) 10(-0.45,5.755) 11(0.45,2.405) 12(0.45,5.755) 13(0.9,1.605) 14(0.9,4.955) 15(1.35,2.405) 16(1.35,5.755) 17(2.25,2.405) 18(2.25,5.755) 19(2.7,1.605) 20(2.7,4.955)
  oval 1.45x2.85 hole 0.9 slot 2.35 at 90 deg: SHIELD(-5.5,2.605) SHIELD(5.49,2.605)
  oval 1.2x2.25 hole 0.7 slot 1.74 at 90 deg: SHIELD(-5.2,-2.895) SHIELD(5.19,-2.895)
  round 1 hole 1 unplated: ""(-4.75,5.755) ""(4.74,5.755)
Top Overlay:
  lines w0.15: -5.7,-4.2 -5.7,-6.4 -4.3,-6.4 ; -5.7,-1.6 -5.7,0.9 ; -5.7,4.5 -5.7,6.555 5.7,6.555 5.7,4.5 ; 4.3,-6.4 5.7,-6.4 5.7,-4.2 ; 5.7,-1.6 5.7,0.9
Mechanical 14:
  lines w0.15: -5.7,2.2 -3.5,2.2 -3.5,1.7 -4.3,1.7 ; 5.7,2.2 3.5,2.2 3.5,1.7 4.3,1.7 ; -5.2,1.7 -4.3,1.7 ; -5.2,1.7 -5.7,1.7 -5.7,6.2 -5.4,6.2 -5.4,6.4 5.4,6.4 5.4,6.2 5.7,6.2 5.7,1.7 5.2,1.7 ; -5.2,1.7 -5.2,-1.2 -5,-1.4 -4.6,-1.4 -4.3,-1.1 ; -4.3,-4.2 -4.3,-2.3 ; -4.3,-4.2 -4.3,-4.2 ; -4.3,-4.2 -5.4,-4.2 -5.4,-2.3 -4.3,-2.3 ; -4.3,-4.2 -4.3,-6.4 4.3,-6.4 4.3,-4.2 ; -4.3,-2.3 -4.3,-1.1 ; -4.3,-1.1 -4.3,1.7 ; 4.3,-4.2 4.3,-2.3 ; 4.3,-4.2 4.3,-4.2 ; 4.3,-4.2 5.4,-4.2 5.4,-2.3 4.3,-2.3 ; 4.3,-2.3 4.3,-1.1 ; 4.3,-1.1 4.3,1.7 ; 4.3,-1.1 4.6,-1.4 5,-1.4 5.2,-1.2 5.2,1.7 ; 4.3,1.7 5.2,1.7 ; -1.8,-5 1.8,-5 1.8,0.1 1.2,0.1 1.2,-4.4 -1.2,-4.4 -1.2,0.1 -1.8,0.1 -1.8,-5
Mechanical 15:
  lines w0.05: -0.5,0 0.5,0 ; 0,-0.5 0,0.5 ; -6.5,-6.7 -6.5,6.9 6.5,6.9 6.5,-6.7 -6.5,-6.7
3D body "c-2129320-3-b-3d.stp": height 4.23, standoff -2.17, extent -5.675,-6.375 5.725,6.275